# Altium integrated library Led2k1-x2-LCP.IntLib: 12 symbols
Pins are listed as number, name and electrical type; pins without a type are passive.

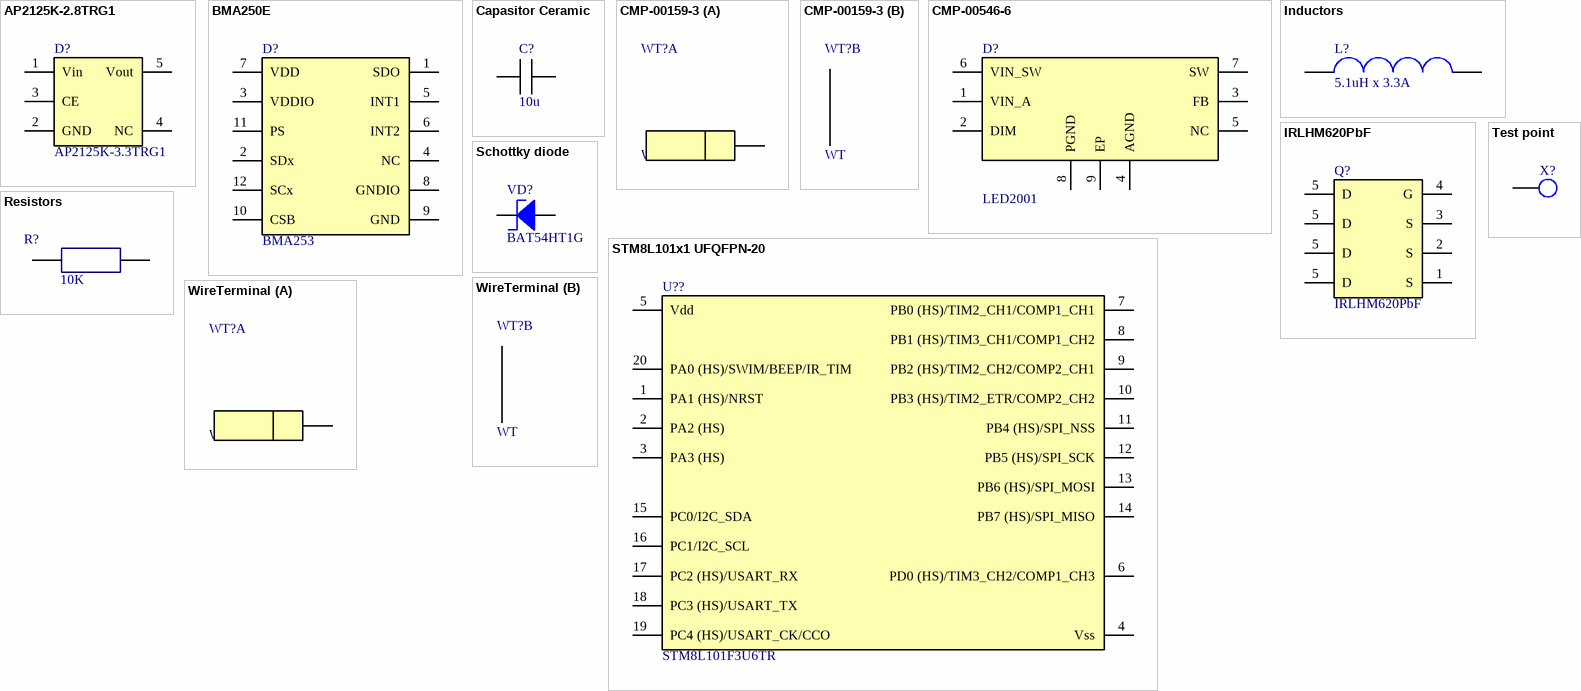
[diagram p0: symbols AP2125K-2.8TRG1 to WireTerminal]

## AP2125K-2.8TRG1
designator D?, comment AP2125K-3.3TRG1
Component Name: IC,  LDO REGULATOR, AP2125K-3.3TRG1, SOT23-5; Package: SOT23-5; Marking: AP2125K-3.3TRG1; ComponentLink1Description: Datasheet; ComponentLink1URL: https://www.diodes.com/assets/Datasheets/AP2125.pdf; Mounting type: SMD; Value: AP2125K-3.3TRG1
footprint SOT23-5
pins: 1 Vin, 2 GND, 3 CE, 4 NC, 5 Vout

## BMA250E
designator D?, comment BMA253
Component Name: Digital triaxial acceleration sensor, BMA253, LGA-12; ComponentLink1URL: http://www.mouser.com/ds/2/783/Bosch_01242017_BMA253-1084829.pdf; Value: BMA253; ComponentLink1Description: Datasheet; Mounting type: SMD; Marking: BMA253; Package: LGA-12
footprint LGA-12 2x2x0.9
pins: 1 SDO, 2 SDx, 3 VDDIO, 4 NC, 5 INT1, 6 INT2, 7 VDD, 8 GNDIO, 9 GND, 10 CSB, 11 PS, 12 SCx

## Capasitor Ceramic
designator C?, comment 10u
NO; Component Name: Ceramic Capacitor, SMD, 0603, X7R, 10u x 25V 10%; Voltage: 25V; Package: 0603; Value: 10u; Marking: 10u
footprint Cap 0603
pins: 1, 2

## CMP-00159-3
designator WT?  value WT  (hidden comment: *)
WT; Component Name: Connector, WT; Marking: *; Package: WT; ComponentLink1Description: Datasheet; ComponentLink1URL: *
footprint WT
part A pins: 1
part B pins: 1

## CMP-00546-6
designator D?, comment LED2001
Component Name: IC, Step-down DC-DC converter , LED2001, VFQFPN-8; Value: LED2001; ComponentLink1Description: Datasheet; Mounting type: SMD; ComponentLink1URL: http://www.st.com/content/ccc/resource/technical/document/datasheet/37/ed/f7/77/d7/ed/4e/84/DM00079085.pdf/files/DM00079085.pdf/jcr:content/translations/en.DM00079085.pdf; Marking: LED2001; Package: VFQFPN-8
footprint VQFPN-8 4x4
pins: 1 VIN_A, 2 DIM, 3 FB, 4 AGND, 5 NC, 6 VIN_SW, 7 SW, 8 PGND, 9 EP

## Inductors
designator L?, comment value 5.1uH x 3.3A  (hidden comment: 51)
ASPI-6045S-5R1N-T, 5.1uH x 3.3A; Component Name: Power Inductor,  ASPI-6045S-5R1N-T, 5.1uH x 3.3A; ComponentLink1Description: Datasheet; Mounting type: SMD; ComponentLink1URL: http://www.abracon.com/Magnetics/power/ASPI-6045S.pdf; Marking: 51; Package: 6x6mm
footprint ASPI-6045S-5R1N-T
pins: 1, 2

## IRLHM620PbF
designator Q?, comment value IRLHM620PbF  (hidden comment: IRLHM620)
IRLHM620PbF; Component Name: HEXFET Power MOSFET, IRLHM620PbF , PQFN-8 3x3MM; ComponentLink1URL: https://www.infineon.com/dgdl/irlhm620pbf.pdf?fileId=5546d462533600a4015356638be325a3; ComponentLink1Description: Datasheet; Mounting type: SMD; Marking: IRLHM620; Package: PQFN-8 3x3
footprint PQFN-8 3.3x3.3
pins: 1 S, 2 S, 3 S, 4 G, 5 D, 5 D, 5 D, 5 D

## Resistors
designator R?, comment value 10K  (hidden comment: 103)
R 10K; Component Name: Fixed resistor, SMD, 0603, 10K 5%; Package: 0603; Marking: 103
footprint R0603 5%
pins: 1, 2

## Schottky diode
designator VD?, comment value BAT54HT1G  (hidden comment: JV)
BAT54HT1G; Component Name: Schottky Barrier Diodes, BAT54HT1G, SOD-323; Marking: JV; Package: SOD-323; ComponentLink1Description: Datasheet; ComponentLink1URL: http://www.onsemi.ru.com/pub_link/Collateral/BAT54HT1-D.PDF; Mounting type: SMD
footprint SOD323
pins: 1, 2

## STM8L101x1 UFQFPN-20
designator U??, comment value STM8L101F3U6TR  (hidden comment: STM8L101)
STM8L101F3U6TR; Component Name: IC, Microcontroller, STM8L101F3U6TR, UFQFPN20; ComponentLink1URL: http://static6.arrow.com/aropdfconversion/a89399d87b205b509839fa3efc4edf58653ca91b/171496178176556cd0022.pdf; ComponentLink1Description: Datasheet; Mounting type: SMD; Marking: STM8L101; Package: UFQFPN20
footprint UFQFPN20 3x3x0.5
pins: 1 PA1 (HS)/NRST, 2 PA2 (HS), 3 PA3 (HS), 4 Vss, 5 Vdd, 6 PD0 (HS)/TIM3_CH2/COMP1_CH3, 7 PB0 (HS)/TIM2_CH1/COMP1_CH1, 8 PB1 (HS)/TIM3_CH1/COMP1_CH2, 9 PB2 (HS)/TIM2_CH2/COMP2_CH1, 10 PB3 (HS)/TIM2_ETR/COMP2_CH2, 11 PB4 (HS)/SPI_NSS, 12 PB5 (HS)/SPI_SCK, 13 PB6 (HS)/SPI_MOSI, 14 PB7 (HS)/SPI_MISO, 15 PC0/I2C_SDA, 16 PC1/I2C_SCL, 17 PC2 (HS)/USART_RX, 18 PC3 (HS)/USART_TX, 19 PC4 (HS)/USART_CK/CCO, 20 PA0 (HS)/SWIM/BEEP/IR_TIM

## Test point
designator X?  (value not drawn)  (no BOM)
TP 0.8mm; Component Name: Connector, TP 0.8mm; Marking: *; Package: 0.8mm; ComponentLink1Description: Datasheet; ComponentLink1URL: *
footprint TP 0.8mm
pins: 1

## WireTerminal
designator WT?  value WT  (hidden comment: *)
WT; Component Name: Connector, WT; Marking: *; Package: WT; ComponentLink1Description: Datasheet; ComponentLink1URL: *
footprint WT
part A pins: 1
part B pins: 1